# Altium footprint library num_one.PcbLib: 28 footprints (part 2 of 2)
Each footprint in its own frame and in the unit in brackets; x right, y up, seen from the top. Pads: shape width x height; smd on the part's side, far side on the other; paste and mask are expansions set on the pad; w line width, h text height; cw(c..) or ccw(c..) is an arc to the next point about the centre after c.
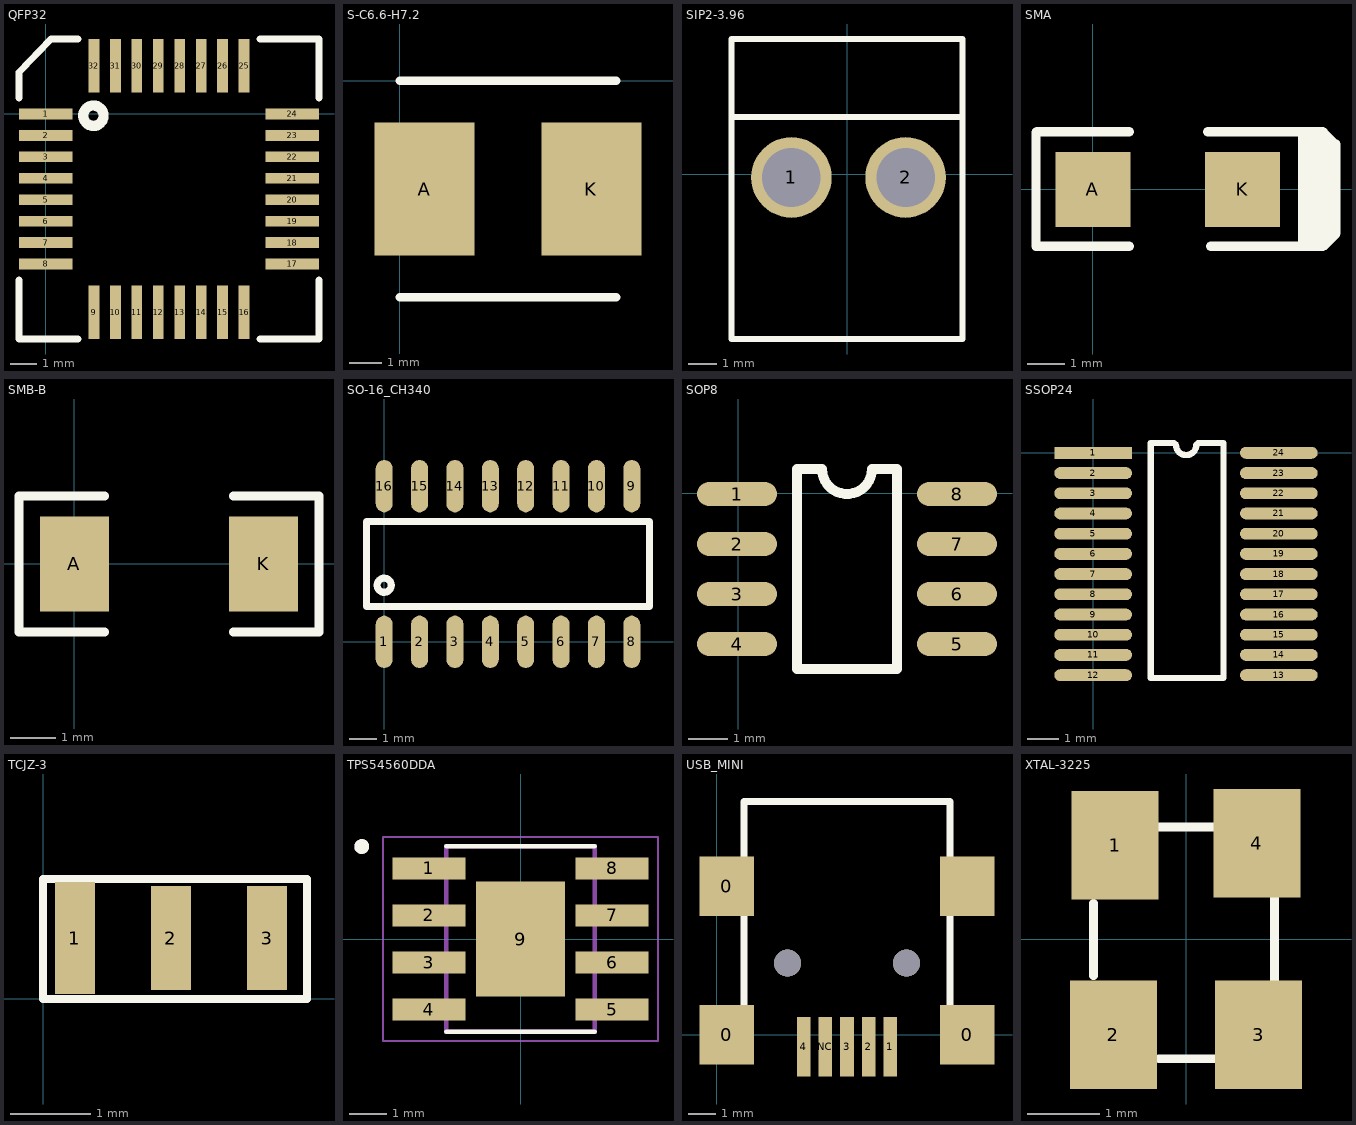
[diagram p1: the footprints below, top view; thin cyan lines are the x and y axes]

## QFP32 [mm]
pads (32):
  rect 2x0.4 smd: 1(0,0) 2(0,-0.8) 3(0,-1.6) 4(0,-2.4) 5(0,-3.2) 6(0,-4) 7(0,-4.8) 8(0,-5.6) 17(9.2,-5.6) 18(9.2,-4.8) 19(9.2,-4) 20(9.2,-3.2) 21(9.2,-2.4) 22(9.2,-1.6) 23(9.2,-0.8) 24(9.2,0)
  rect 0.4x2 smd: 9(1.8,-7.4) 10(2.6,-7.4) 11(3.4,-7.4) 12(4.2,-7.4) 13(5,-7.4) 14(5.8,-7.4) 15(6.6,-7.4) 16(7.4,-7.4) 25(7.4,1.8) 26(6.6,1.8) 27(5.8,1.8) 28(5,1.8) 29(4.2,1.8) 30(3.4,1.8) 31(2.6,1.8) 32(1.8,1.8)
Top Overlay:
  circle w0.381: c1.777,-0.063 r0.381
  lines w0.254: -1,-6.2 -1,-8.4 1.2,-8.4 ; -1,0.6 -1,1.556 0.19,2.8 1.2,2.8 ; 8,-8.4 10.2,-8.4 10.2,-6.2 ; 8,2.8 10.2,2.8 10.2,0.6

## S-C6.6-H7.2 [mm]
pads (2):
  rect 3.04x4.06 smd: A(0.762,-3.302) K(5.842,-3.302)
Top Overlay:
  lines w0.254: 0,-6.604 6.604,-6.604 ; 0,0 6.604,0

## SIP2-3.96 [mil]
pads (2):
  round 110 hole 80: 1(-75.91,-4.25) 2(80,-4.25)
Top Overlay:
  lines w8: -157.48,78.42 157.48,78.42 ; -157.48,-224.72 -157.48,184.72 157.48,184.72 157.48,-224.72 -157.48,-224.72

## SMA [mm]
pads (2):
  rect 2x2 smd: A(0,0) K(4,0)
Top Overlay:
  rectangle: 5.486,-1.27 6.379,1.241
  rectangle: 5.486,-1.473 6.223,1.499
  lines w0.254: -1.524,1.524 -1.524,-1.524 0.965,-1.524 ; -1.499,1.549 0.965,1.549 ; 3.073,1.549 6.147,1.549 6.147,1.346 6.498,0.995 6.431,0.995 6.262,0.825 6.262,1.033 ; 3.15,-1.524 5.486,-1.524 6.096,-1.524 ; 6.147,-1.473 6.096,-1.524 ; 6.172,1.511 6.477,1.206 ; 6.498,1.206 6.498,-1.176 6.15,-1.524 6.096,-1.524

## SMB-B [mil]
pads (2):
  rect 60x82 smd: A(0,0) K(164,0)
Top Overlay:
  lines w8: 26,-59 -48,-59 -48,59 26,59 ; 138,-59 212,-59 212,59 138,59

## SO-16_CH340 [mil]
pads (16):
  oval 24x74 smd: 1(0,0) 2(50,0) 3(100,0) 4(150,0) 5(200,0) 6(250,0) 7(300,0) 8(350,0) 9(350,220) 10(300,220) 11(250,220) 12(200,220) 13(150,220) 14(100,220) 15(50,220) 16(0,220)
Top Overlay:
  circle w10: c0,80 r10
  lines w10: -25,50 375,50 375,170 -25,170 -25,50
3D body: height 68.9, standoff 0, extent -18.83,-5 367,223.35

## SOP8 [mil]
pads (8):
  oval 80x24 smd: 1(-1,-1) 2(-1,-51) 3(-1,-101) 4(-1,-151) 5(219,-151) 6(219,-101) 7(219,-51) 8(219,-1)
Top Overlay:
  lines w10: 59,-176 59,24 84,24 ccw(c109,24) 134,24 159,24 159,-176 59,-176
3D body: height 62.99, standoff 0, extent -8.7,-173.62 229.17,24.02

## SSOP24 [mm]
pads (24):
  rect 2.5x0.381 smd: 1(0,0)
  oval 2.5x0.381 smd: 2(0,-0.65) 3(0,-1.3) 4(0,-1.95) 5(0,-2.6) 6(0,-3.25) 7(0,-3.9) 8(0,-4.55) 9(0,-5.2) 10(0,-5.85) 11(0,-6.5) 12(0,-7.15) 13(5.975,-7.15) 14(5.975,-6.5) 15(5.975,-5.85) 16(5.975,-5.2) 17(5.975,-4.55) 18(5.975,-3.9) 19(5.975,-3.25) 20(5.975,-2.6) 21(5.975,-1.95) 22(5.975,-1.3) 23(5.975,-0.65) 24(5.975,0)
Top Overlay:
  lines w0.2: 1.852,-7.245 1.852,0.315 2.606,0.315 2.667,0.254 ccw(c2.993,0.254) 3.318,0.254 3.379,0.315 4.198,0.315 4.198,-7.245 1.852,-7.245

## TCJZ-3 [mm]
pads (3):
  rect 0.5x1.4 smd: 1(0.4,0.762)
  rect 0.5x1.3 smd: 2(1.6,0.762) 3(2.8,0.762)
Top Overlay:
  lines w0.1: 0,0 3.3,0 3.3,1.5 0,1.5 0,0

## TPS54560DDA [mm]
pads (9):
  rect 1.97x0.6 smd: 1(-2.475,1.905) 2(-2.475,0.635) 3(-2.475,-0.635) 4(-2.475,-1.905) 5(2.475,-1.905) 6(2.475,-0.635) 7(2.475,0.635) 8(2.475,1.905)
  rect 2.4x3.1 smd: 9(0,0)
Top Overlay:
  circle w0.2: c-4.285,2.495 r0.1
  lines w0.127: -2,-2.5 2,-2.5 ; -2,2.5 2,2.5
Top Paste:
  region: -0.852,1.09 0.85,1.09 0.85,-1.092 -0.852,-1.092
Mechanical 4:
  circle w0.2: c-4.285,2.495 r0.1
  circle w0.2: c-4.285,2.495 r0.1
  lines w0.127: -2,-2.5 2,-2.5 ; -2,-2.5 -2,2.5 ; -2,-2.5 2,-2.5 ; -2,-2.5 -2,2.5 ; -2,2.5 2,2.5 ; -2,2.5 2,2.5 ; 2,-2.5 2,2.5 ; 2,-2.5 2,2.5
Mechanical 16:
  lines w0.05: -3.71,-2.75 3.71,-2.75 3.71,2.75 -3.71,2.75 -3.71,-2.75

## USB_MINI [mm]
pads (11):
  rect 2x2.2 smd: 0(0.376,0) 0(0.376,5.5) 0(9.276,0) ""(9.276,5.5)
  rect 0.5x2.2 smd: 1(6.426,-0.45) 2(5.626,-0.45) 3(4.826,-0.45) 4(3.226,-0.45) NC(4.026,-0.45)
  round 1 hole 1: ""(2.626,2.65) ""(7.026,2.65)
Top Overlay:
  lines w0.254: 1.016,-0.889 1.016,8.636 8.636,8.636 8.636,-0.889

## XTAL-3225 [mm]
pads (4):
  rect 1.2x1.5 smd: 1(-0.978,1.295) 2(-1.003,-1.321) 3(1.003,-1.321) 4(0.978,1.321)
Top Overlay:
  lines w0.12: -1.278,-0.505 -1.278,0.495 ; -0.378,-1.655 0.422,-1.655 ; -0.378,1.545 0.422,1.545 ; 1.222,-0.605 1.222,0.595
3D body: height 0.8, standoff 0, extent -1.268,-1.651 1.232,1.549